# EAGLE library part MC1458P (library SamacSys_Parts)
General usage dual op-amp,MC1458P DIP8 Texas Instruments MC1458P, Dual Op Amp, 1MHz, 8-Pin PDIP Source: Datasheet <http://www.ti.com/lit/ds/symlink/mc1458.pdf>
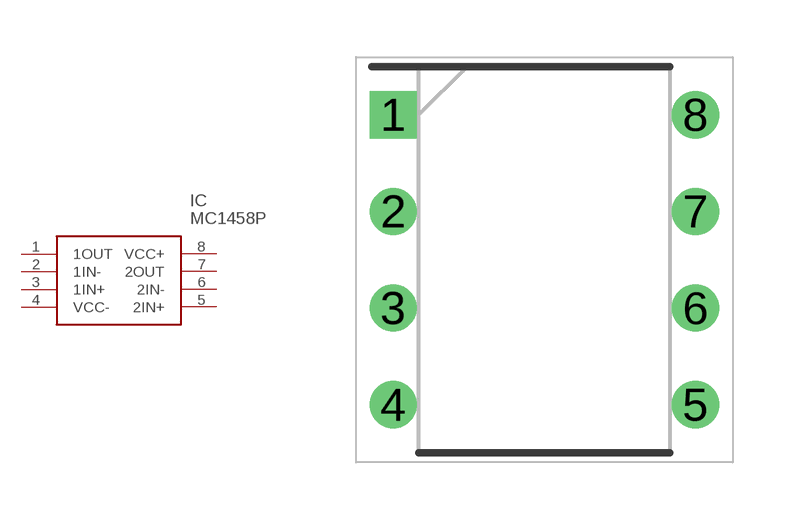
[diagram p4: symbol with the pads of DIP794W53P254L959H508Q8N; footprint DIP794W53P254L959H508Q8N]

Designator prefix IC

## MC1458P (DESCRIPTION: General usage dual op-amp,MC1458P DIP8 Texas Instruments MC1458P, Dual Op Amp, 1MHz, 8-Pin PDIP; HEIGHT: 5.08mm; MANUFACTURER_NAME: Texas Instruments; MANUFACTURER_PART_NUMBER: MC1458P; MOUSER_PART_NUMBER: 595-MC1458P; MOUSER_PRICE-STOCK: https://www.mouser.co.uk/ProductDetail/Texas-Instruments/MC1458P?qs=YhsVCygOPE1MedllaWxE%252BA%3D%3D)  [DIP794W53P254L959H508Q8N]
1  1OUT  out
2  1IN-  in
3  1IN+  in
4  VCC-  pwr
5  2IN+  in
6  2IN-  in
7  2OUT  out
8  VCC+  pwr

## Footprint DIP794W53P254L959H508Q8N (pad centres in mm)
8-DIP (0.300", 7.62mm)
drill 0.73 pad 1.13 square: 1 -3.97,3.81
drill 0.73 pad 1.13: 2 -3.97,1.27; 3 -3.97,-1.27; 4 -3.97,-3.81; 5 3.97,-3.81; 6 3.97,-1.27; 7 3.97,1.27; 8 3.97,3.81